# Altium schematic symbol library Passive.SchLib: 86 symbols (part 4 of 4)
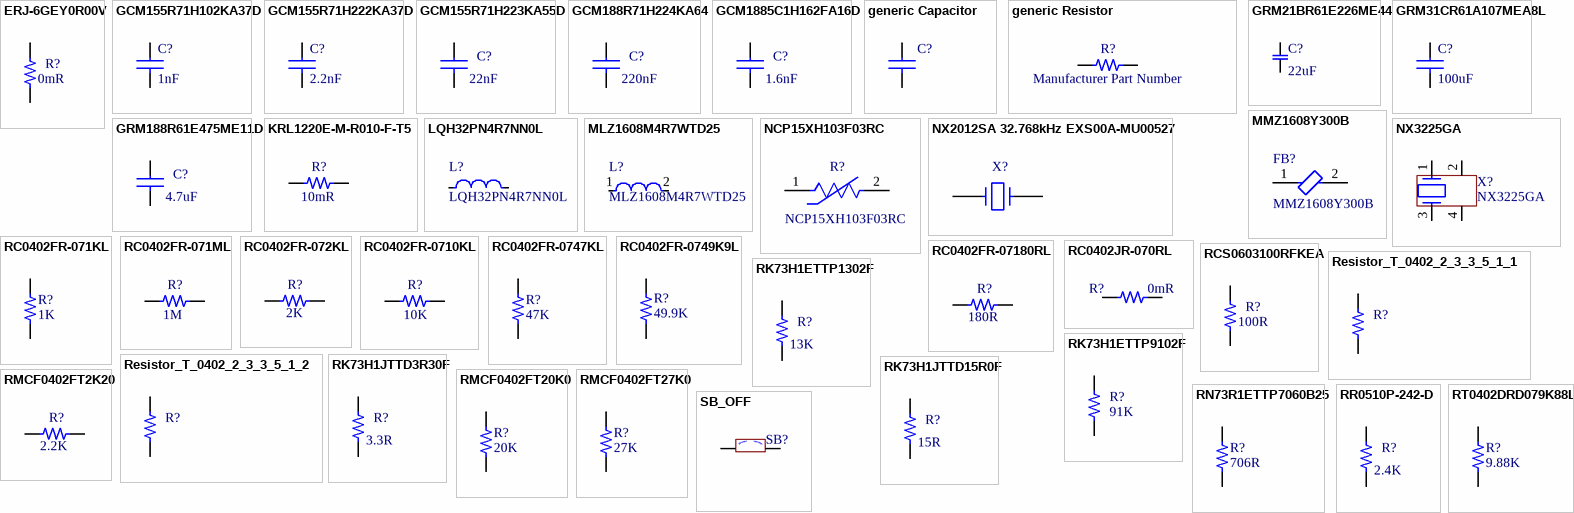
[diagram p5: symbols ERJ-6GEY0R00V to SB_OFF]

## RR0510P-242-D
designator R?  value 2.4K  (hidden comment: RR0510P-242-D)
Res Thin Film 0402 2.4K Ohm 0.5% 0.063W(1/16W) ±25ppm/C Pad SMD Automotive T/R; Manufacturer: Susumu; Library: Hexabitz; Power Rating: 62.5mW; Voltage Rating: 25V; Max Power Dissipation: 63mW; Temperature Coefficient: 25ppm/°C; Voltage Rating (DC): 50V; Supplier: Digikey; Supplier Part Number: RR05P2.4KDDKR-ND; Manufacturer Part Number: RR0510P-242-D; RoHS: Yes; Category: Chip SMD Resistors; Stock: 69133; Pricing: 1=0.1, 10=0.024, 50=0.0212, 100=0.0201, 500=0.01758, 1000=0.01662, 5000=0.01346 (USD); Case/Package: 0402; Case Code (Metric): 1005; Case Code (Imperial): 0402; Min Operating Temperature: -55°C; Max Operating Temperature: 125°C; Package Quantity: 10000; Tolerance: 0.5%; Packaging: Tape and Reel; Number of Terminations: 2; Termination: SMD/SMT; Series: RR; Length: 0.039inch; Width: 0.02inch; Height: 0.016inch; Lead Free: Lead Free; RoHS Compliant: Yes; ComponentLink1URL: https://datasheet.ciiva.com/2486/rr-data-sheet-2486884.pdf?src-supplier=Digikey; ComponentLink1Description: https://datasheet.ciiva.com/2486/rr-data-sheet-2486884.pdf?src-supplier=Digikey; ComponentLink2URL: https://datasheet.ciiva.com/2486/rr-data-sheet-2486885.pdf?src-supplier=Digikey; ComponentLink2Description: https://datasheet.ciiva.com/2486/rr-data-sheet-2486885.pdf?src-supplier=Digikey; ComponentLink3URL: https://datasheet.ciiva.com/2486/rr-data-sheet-2486886.pdf?src-supplier=Digikey; ComponentLink3Description: https://datasheet.ciiva.com/2486/rr-data-sheet-2486886.pdf?src-supplier=Digikey; Supplier 1: Digikey; Supplier Part Number 1: RR05P2.4KDDKR-ND
footprint R0402_3
pins: 1, 2

## RT0402DRD079K88L
designator R?  value 9.88K  (hidden comment: RT0402DRD079K88L)
Res High Precision Thin Film 0402 9.88k Ohm 0.5% 1/16W ±25ppm/°C Molded Paper T/R; Manufacturer: Yageo; Max Power Dissipation: 63mW; Library: Hexabitz; Supplier: Digikey; Supplier Part Number: 311-2214-6-ND; Manufacturer Part Number: RT0402DRD079K88L; RoHS: Yes; Category: Chip SMD Resistors; Stock: 9140; Pricing: 1=0.12, 10=0.073, 50=0.0684, 100=0.0673, 500=0.0561, 1000=0.04998, 5000=0.03774 (USD); Case/Package: 0402; Case Code (Metric): 1005; Case Code (Imperial): 0402; Min Operating Temperature: -55°C; Max Operating Temperature: 155°C; Packaging: Cut Tape; Number of Terminations: 2; Tolerance: 0.5%; Temperature Coefficient: 25ppm/°C; Series: RT; RoHS Compliant: Yes; ComponentLink1URL: http://www.yageo.com/documents/recent/PYu-RT_1-to-0.01_RoHS_L_9.pdf?src-supplier=Digikey; ComponentLink1Description: http://www.yageo.com/documents/recent/PYu-RT_1-to-0.01_RoHS_L_9.pdf?src-supplier=Digikey; Supplier 1: Digikey; Supplier Part Number 1: 311-2214-6-ND
footprint R0402_3
pins: 1, 2

## SB_OFF
designator SB?  (value not drawn)
Solder Bridge OFF; Fitted: NO; Ordered_By: Subcon; Solder: NO; Library: Hexabitz; ECCN_US/EU: n/a; Distrib: *; Value: SB_OFF; Manuf_1: *; Manuf_Part_1: *; Order_Code: *
footprint SOLDER-BRIDGE_R0603-0R
pins: 1, 2

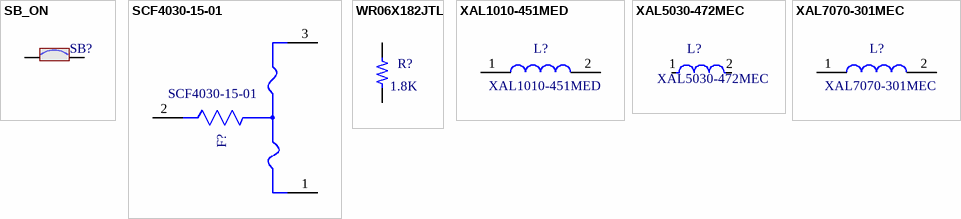
[diagram p2: symbols SB_ON to XAL7070-301MEC]

## SB_ON
designator SB?  (value not drawn)
Solder Bridge ON; Fitted: YES; Ordered_by: Subcon; Library: Hexabitz; ECCN_US/EU: n/a; Distrib: *; Manuf_1: *; Manuf_Part_1: *; Order_code: *; Value: SB_ON; Solder: YES
footprint SOLDER-BRIDGE_R0603-0R
pins: 1, 2

## SCF4030-15-01
designator F?
Electric Fuse, Fast Blow, 15A, 36VDC, 50A (IR), Surface Mount, 4x3mm; Manufacturer: Eaton; Library: Hexabitz; Voltage Rating: 36V; Supplier: Digikey; Supplier Part Number: 283-SCF4030-15-01DKR-ND; RoHS: No; Category: PTC Resettable Fuses; Stock: 8112; Pricing: 1=1.6, 5=1.324, 10=1.221, 50=1.0134, 100=0.935, 250=0.84024, 500=0.77472, 1000=0.71402 (USD); Min Operating Temperature: -20°C; Max Operating Temperature: 60°C; Current Rating: 15A; Height: 1mm; ComponentLink1URL: https://datasheet.octopart.com/SCF4030-15-01-Eaton-datasheet-158973896.pdf?src-supplier=Sager+Electronics; ComponentLink1Description: https://datasheet.octopart.com/SCF4030-15-01-Eaton-datasheet-158973896.pdf?src-supplier=Sager+Electronics; Supplier 1: Mouser; Supplier Part Number 1: 504-SCF4030-15-01; Supplier 2: Digikey; Supplier Part Number 2: 283-SCF4030-15-01DKR-ND; Manufacturer Part Number: SCF4030-15-01
footprint FP-SCF4030-MFG
pins: 1, 2, 3

## WR06X182JTL
designator R?  value 1.8K  (hidden comment: WR06X182JTL)
WR06 Series 0603 0.1 W 1.8 kO ±5% ±100 ppm/°C Thick Film Chip Resistor; Manufacturer: Walsin Technologies; Library: Hexabitz; Power Rating: 100mW; Voltage Rating (DC): 75V; Supplier: Digikey; Supplier Part Number: 1292-WR06X182JTLDKR-ND; Manufacturer Part Number: WR06X182JTL; RoHS: Yes; Category: Chip SMD Resistors; Stock: 990; Pricing: 1=0.1, 10=0.013, 50=0.007, 100=0.0055, 500=0.00328, 1000=0.00268 (USD); Case/Package: Molded; Contact Material: Tin; Min Operating Temperature: -55°C; Max Operating Temperature: 155°C; Packaging: Tape and Reel; Tolerance: 5%; Construction: Rectangular; Length: 1.6mm; Depth: 0.8mm; Military Standard: Not; Lead Free: Lead Free; RoHS Compliant: Yes; ComponentLink1URL: http://www.farnell.com/datasheets/1960319.pdf?src-supplier=Farnell; ComponentLink1Description: http://www.farnell.com/datasheets/1960319.pdf?src-supplier=Farnell; ComponentLink2URL: https://www.verical.com/server-webapp/html/getDatasheet?partID=414211&src-supplier=Verical; ComponentLink2Description: https://www.verical.com/server-webapp/html/getDatasheet?partID=414211&src-supplier=Verical; ComponentLink3URL: https://datasheet.octopart.com/WR06X182-JTL-Walsin-Technologies-datasheet-48038251.pdf?src-supplier=Element14; ComponentLink3Description: https://datasheet.octopart.com/WR06X182-JTL-Walsin-Technologies-datasheet-48038251.pdf?src-supplier=Element14; Supplier 1: Digikey; Supplier Part Number 1: 1292-WR06X182JTLDKR-ND
footprint R0603
pins: 1, 2

## XAL1010-451MED
designator L?
General Purpose Inductor, 0.45uH, 20%, 1 Element, Composite-Core, SMD, 4539; Manufacturer: Coilcraft; Shielding: Shielded; Self Resonant Frequency: 66MHz; Value: 450nH; Max DC Current: 53A; Test Frequency: 100kHz; Saturation Current: 70.5A; Library: Hexabitz; ComponentLink1Description: datasheet; ComponentLink1URL: https://www.coilcraft.com/getmedia/dd74e670-e705-456a-9a69-585fe02eaf3c/xal1010.pdf; ComponentLink2Description: Manufacture Page; ComponentLink2URL: https://www.coilcraft.com/en-us/products/power/shielded-inductors/molded-inductor/xal/xal1010/xal1010-451/; Supplier: Mouser; Supplier Part Number: 994-XAL1010-451MED; RoHS: Yes; Category: Fixed Inductors; Stock: 284; Pricing: 1=4.64, 10=3.88, 50=3.04, 100=2.79, 1000=2.45, 10000=2.17 (USD); Mounting Technology: Surface Mount; Case/Package: SMD/SMT; Core Material: Composite; Min Operating Temperature: -40°C; Max Operating Temperature: 125°C; Inductance Tolerance: 20%; Packaging: Tape and Reel; Package Quantity: 300; Tolerance: 20%; Termination: SMD/SMT; RMS Current (Irms): 53A; Series: XAL1010; Length: 11.8mm; Width: 10.5mm; Height: 10mm; Reach SVHC Compliant: No; Lead Free: Contains Lead; RoHS Compliant: Yes; Supplier 1: Digi-Key Marketplace; Supplier Part Number 1: 4652-XAL1010-451MED-ND; Supplier 2: Digi-Key Marketplace; Supplier Part Number 2: 2457-XAL1010-451MED-ND; Supplier 3: Mouser; Supplier Part Number 3: 994-XAL1010-451MED; Manufacturer Part Number: XAL1010-451MED
footprint XAL1010451MED
pins: 1, 2

## XAL5030-472MEC
designator L?
General Purpose Inductor, 4.7uH, 20%, 1 Element, Composite-Core, SMD, 2221; Manufacturer: Coilcraft; Library: Hexabitz; Self Resonant Frequency: 23MHz; Shielding: Shielded; Max DC Current: 5.9A; Test Frequency: 100kHz; Saturation Current: 6.7A; Supplier: Mouser; Supplier Part Number: 994-XAL5030-472MEC; RoHS: Yes; Category: Fixed Inductors; Pricing: 1=2.32, 10=1.98, 50=1.82, 100=1.36, 1000=1.16, 10000=1 (USD); Mounting Technology: Surface Mount; Case/Package: SMD/SMT; Core Material: Composite; Min Operating Temperature: -40°C; Max Operating Temperature: 125°C; Packaging: Tape and Reel; Value: 4.7uH; Package Quantity: 400; Tolerance: 20%; Termination: SMD/SMT; Series: XAL5030; Inductance Tolerance: 20%; RMS Current (Irms): 5.9A; Length: 5.68mm; Width: 5.48mm; Height: 3.1mm; Lead Free: Contains Lead; Reach SVHC Compliant: No; RoHS Compliant: Yes; ComponentLink1URL: https://datasheet.ciiva.com/13277/xal50xx-13277478.pdf?src-supplier=Mouser; ComponentLink1Description: https://datasheet.ciiva.com/13277/xal50xx-13277478.pdf?src-supplier=Mouser; ComponentLink2URL: https://datasheet.ciiva.com/22680/1681990-22680360.pdf?src-supplier=Element14; ComponentLink2Description: https://datasheet.ciiva.com/22680/1681990-22680360.pdf?src-supplier=Element14; ComponentLink3URL: https://datasheet.ciiva.com/22680/1681990-22680361.pdf?src-supplier=Element14; ComponentLink3Description: https://datasheet.ciiva.com/22680/1681990-22680361.pdf?src-supplier=Element14; Supplier 1: Mouser; Supplier Part Number 1: 994-XAL5030-472MEC; Manufacturer Part Number: XAL5030-472MEC
footprint FP-XAL5030-472MEB-MFG
pins: 1, 2

## XAL7070-301MEC
designator L?
General Purpose Inductor, 0.3uH, 20%, 1 Element, Composite-Core, SMD, 3028; Manufacturer: Coilcraft; Self Resonant Frequency: 135MHz; Shielding: Shielded; Value: 300nH; Max DC Current: 33.4A; Test Frequency: 100kHz; Saturation Current: 55.6A; Library: Hexabitz; ComponentLink1Description: datasheet; ComponentLink1URL: https://www.coilcraft.com/getmedia/1ba55433-bcc8-4838-9b21-382f497e12e0/xal7070.pdf; ComponentLink2Description: Manufacture Page; ComponentLink2URL: https://www.coilcraft.com/en-us/products/power/shielded-inductors/molded-inductor/xal/xal7070/xal7070-301/; Supplier: Mouser; Supplier Part Number: 994-XAL7070-301MEC; RoHS: Yes; Category: Fixed Inductors; Stock: 182; Pricing: 1=4.17, 10=3.49, 50=3.19, 100=2.5, 1000=1.81, 10000=1.79 (USD); Mounting Technology: Surface Mount; Case/Package: SMD/SMT; Core Material: Composite; Min Operating Temperature: -40°C; Max Operating Temperature: 125°C; Packaging: Tape and Reel; Package Quantity: 150; Tolerance: 20%; Inductance Tolerance: 20%; Termination: SMD/SMT; RMS Current (Irms): 33.4A; Series: XAL7070; Length: 8mm; Width: 7.7mm; Height: 7mm; Lead Free: Contains Lead; RoHS Compliant: Yes; Reach SVHC Compliant: Unknown; Supplier 1: Mouser; Supplier Part Number 1: 994-XAL7070-301MEC; Manufacturer Part Number: XAL7070-301MEC
footprint XAL7070301MEC
pins: 1, 2